# EAGLE library part LTC3630 (library chips_old)
65 V 500 mA Step Down converter
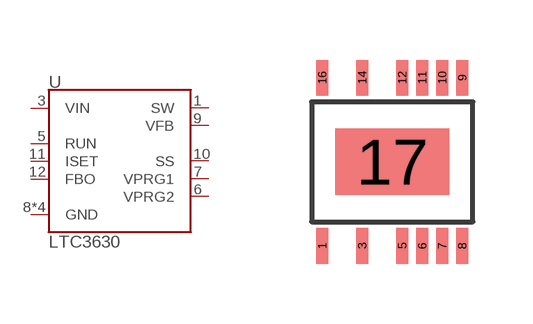
[diagram p28: symbol with the pads of MSOP-16(12); footprint MSOP-16(12)]

Designator prefix U

## LTC3630 (DIGIKEY: LTC3630EMSE#PBF-ND)  [MSOP-16(12)]
1  SW
3  VIN
5  RUN
6  VPRG2
7  VPRG1
8  GND
9  VFB
10  SS
11  ISET
12  FBO
14  GND
16  GND
17  GND

## Footprint MSOP-16(12) (pad centres in mm)
smd 0.305 x 0.889: 1 -1.75,-2.106; 3 -0.75,-2.106; 5 0.25,-2.106; 6 0.75,-2.106; 7 1.25,-2.106; 8 1.75,-2.106; 9 1.75,2.106; 10 1.25,2.106; 11 0.75,2.106; 12 0.25,2.106; 14 -0.75,2.106; 16 -1.75,2.106
smd 2.845 x 1.651: 17 0,0